# Altium footprint library m2m V200.PcbLib: 21 footprints (part 1 of 2)
Each footprint in its own frame and in the unit in brackets; x right, y up, seen from the top. Pads: shape width x height; smd on the part's side, far side on the other; paste and mask are expansions set on the pad; w line width, h text height; cw(c..) or ccw(c..) is an arc to the next point about the centre after c.
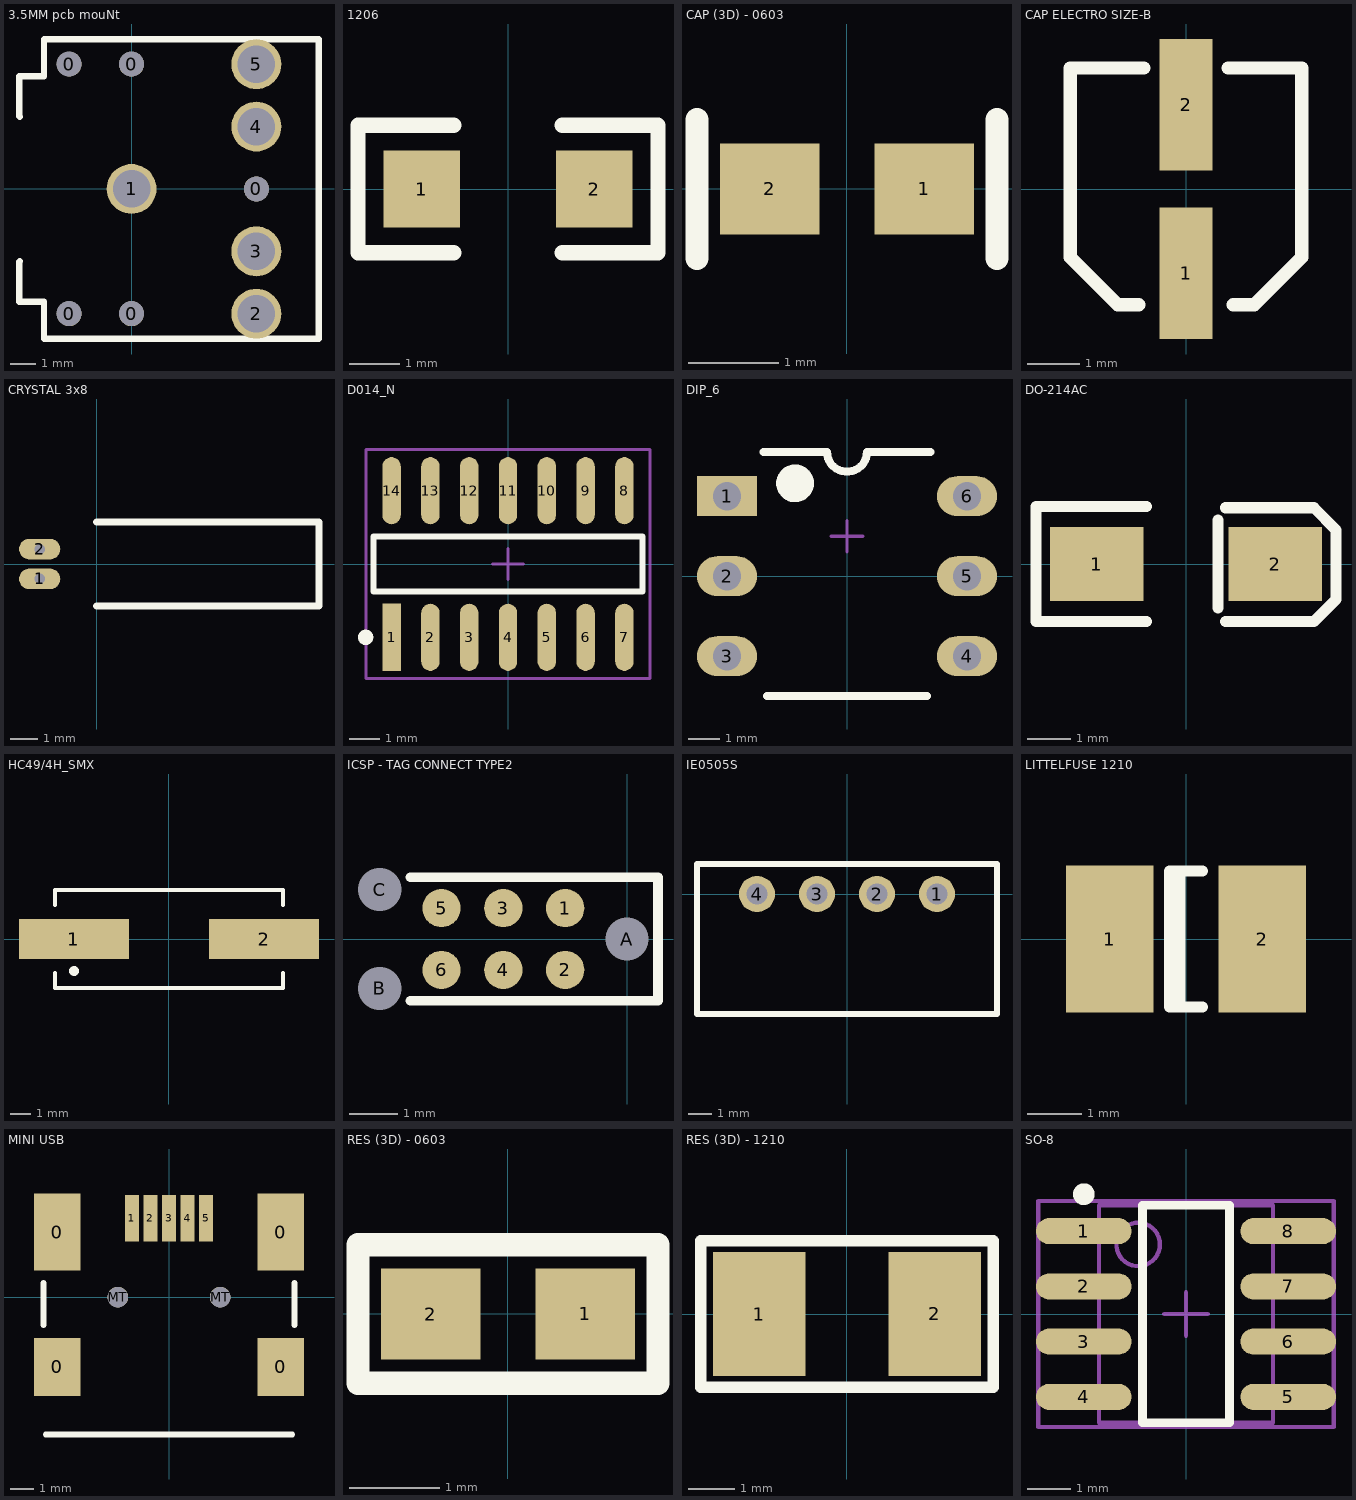
[diagram p0: the footprints below, top view; thin cyan lines are the x and y axes]

## 3.5MM pcb mouNt [mm]
pads (10):
  round 1 hole 1: 0(-2.5,-5) 0(-2.5,5) 0(0,-5) 0(0,5) 0(5,0)
  round 2 hole 1.5: 1(0,0) 2(5,-5) 3(5,-2.5) 4(5,2.5) 5(5,5)
Top Overlay:
  lines w0.254: -4.484,-2.898 -4.502,-2.917 -4.502,-4.514 -3.511,-4.514 -3.511,-5.987 -3.486,-6.013 ; -4.484,2.894 -4.502,2.912 -4.502,4.51 -3.511,4.51 -3.511,5.983 -3.486,6.008 ; -3.499,-6 7.5,-6 ; -3.499,5.995 7.5,5.995 7.501,5.994 ; 7.501,-5.999 7.501,5.994 ; 7.501,-5.999 7.501,5.994
3D body: height 5.52, standoff -3.28, extent -6.549,-5.999 7.501,6.001

## 1206 [mil]
height 27.95
pads (2):
  rect 60x60 smd: 1(-67.5,0) 2(67.5,0)
Top Overlay:
  lines w12: -42.5,-50 -117.5,-50 -117.5,50 -42.5,50 ; 42.5,-50 117.5,-50 117.5,50 42.5,50
3D body: height 21.65, standoff 0, extent -62.99,-31.5 62.99,31.5

## CAP (3D) - 0603 [mm]
height 0.025
pads (2):
  rect 1.1x1 smd: 1(0.85,0) 2(-0.85,0)
Top Overlay:
  lines w0.254: -1.651,-0.762 -1.651,0.762 ; 1.651,-0.762 1.651,0.762
3D body: height 0.92, standoff 0, extent -0.5,-0.4 0.5,0.4
3D body: height 0.92, standoff 0, extent 0.5,-0.4 0.8,0.4
3D body: height 0.92, standoff 0, extent -0.8,-0.4 -0.5,0.4

## CAP ELECTRO SIZE-B [mm]
pads (2):
  rect 1x2.5 smd: 1(0,-1.6) 2(0,1.6)
Top Overlay:
  lines w0.254: -0.9,-2.2 -1.3,-2.2 -2.2,-1.3 -2.2,2.3 -0.8,2.3 ; 0.8,2.3 2.2,2.3 2.2,-1.3 1.3,-2.2 0.9,-2.2
3D body: height 5.4, standoff 0, extent -2.15,-2.3 2.15,2.3

## CRYSTAL 3x8 [mil]
pads (2):
  oval 60x30 hole 15: 1(-82.68,-21.65) 2(-82.68,21.65)
Top Overlay:
  lines w10: 0,-61.02 322.83,-61.02 322.83,61.02 0,61.02
3D body: height 120.08, standoff -1.97, extent -119.49,-62.05 319.49,60

## D014_N [mm] "SOIC, 14-Leads, Body 8.7x3.9mm, Pitch 1.27mm, IPC Medium Density"
height 1.75
pads (14):
  rect 0.6x2.2 smd: 1(-3.81,-2.4)
  oval 0.6x2.2 smd: 2(-2.54,-2.4) 3(-1.27,-2.4) 4(0,-2.4) 5(1.27,-2.4) 6(2.54,-2.4) 7(3.81,-2.4) 8(3.81,2.4) 9(2.54,2.4) 10(1.27,2.4) 11(0,2.4) 12(-1.27,2.4) 13(-2.54,2.4) 14(-3.81,2.4)
Top Overlay:
  circle w0.25: c-4.66,-2.4 r0.125
  lines w0.2: -4.4,-0.9 -4.4,0.9 4.4,0.9 4.4,-0.9 -4.4,-0.9
Mechanical 15:
  lines w0.1: -0.5,0 0.5,0 ; 0,-0.5 0,0.5 ; -4.65,-3.75 -4.65,3.75 4.65,3.75 4.65,-3.75 -4.65,-3.75
3D body: height 1.75, standoff 0, extent -4.375,-3 4.375,3

## DIP_6 [mm]
pads (6):
  rect 1.905x1.27 hole 0.9: 1(-3.81,2.54)
  oval 1.905x1.27 hole 0.9: 2(-3.81,0) 3(-3.81,-2.54) 4(3.81,-2.54) 5(3.81,0) 6(3.81,2.54)
Top Overlay:
  circle w0.6: c-1.65,2.95 r0.3
  lines w0.254: -2.65,3.95 -0.635,3.95 ccw(c0,3.95) 0.635,3.95 2.65,3.95 ; -2.54,-3.81 2.54,-3.81
Mechanical 15:
  lines w0.1: -0.5,1.27 0.5,1.27 ; 0,0.77 0,1.77
3D body: height 4.32, standoff -3.28, extent -4,-4.022 4,4.064

## DO-214AC [mil]
pads (2):
  rect 85x67 smd: 1(-81,0) 2(81,0)
Top Overlay:
  lines w10: -36,-52 -136,-52 -136,52 -36,52 ; 29,-40 29,40 ; 36,-52 116,-52 136,-32 ; 36,51 116,51 136,31 136,-31
3D body: height 11.81, standoff 0, extent -78.74,-23.62 -55.12,23.62
3D body: height 11.81, standoff 0, extent 55.12,-23.62 78.74,23.62
3D body: height 61.02, standoff 0, extent 39.37,-39.37 49.21,39.37
3D body: height 59.06, standoff 0, extent -59.06,-39.37 59.06,39.37

## HC49/4H_SMX [mm] "Quartz Crystal, SM; Body 13.4 (inc. leads) x 4.9 mm (LxW max)"
height 4.3
pads (2):
  rect 5.5x2 smd: 1(-4.75,0) 2(4.75,0)
Top Overlay:
  circle w0.25: c-4.75,-1.6 r0.125
  lines w0.2: -5.7,-1.7 -5.7,-2.45 5.7,-2.45 5.7,-1.7 ; -5.7,1.7 -5.7,2.45 5.7,2.45 5.7,1.7
3D body: height 4.2, standoff 0, extent -6.365,-2.35 6.335,2.35

## ICSP - TAG CONNECT TYPE2 [mil] "ICSP - TAG CONNECT - TYPE 2"
height 51.18
pads (9):
  round 31 smd paste-40: 1(-50,25) 2(-50,-25) 3(-100,25) 4(-100,-25) 5(-150,25) 6(-150,-25)
  round 34 hole 35 unplated: A(0,0) B(-200,-40) C(-200,40)
Top Overlay:
  lines w7.87: -175,-50 25,-50 25,50 -175,50

## IE0505S [mil]
pads (4):
  round 60 hole 35: 1(150,0) 2(50,0) 3(-50,0) 4(-150,0)
Top Overlay:
  lines w10: -250,-200 -250,0 -250,50 250,50 250,-200 -250,-200
3D body: height 394.3, standoff -160.82, extent -228.34,-200 228.35,36.22

## LITTELFUSE 1210 [mm] "Chip Capacitor; Body 3.2 x 2.5 mm (LxW typ)"
height 1.7
pads (2):
  rect 1.6x2.7 smd: 1(-1.4,0) 2(1.4,0)
Top Overlay:
  lines w0.2: -0.11,-1.25 -0.11,1.25 ; 0.3,-1.25 -0.3,-1.25 -0.3,1.25 0.3,1.25
3D body: height 0.67, standoff 0, extent -1.608,-1.288 1.607,1.287

## MINI USB [mm] "KEYSTONE ELECTRONICS 934"
pads (11):
  rect 2x2.5 smd: 0(-4.8,-3) 0(4.8,-3)
  rect 2x3.3 smd: 0(-4.8,2.8) 0(4.8,2.8)
  rect 0.6x2 smd: 1(-1.6,3.4) 2(-0.8,3.4) 3(0,3.4) 4(0.8,3.4) 5(1.6,3.4)
  round 0.89 hole 0.89 unplated: MT(-2.2,0) MT(2.2,0)
Top Overlay:
  lines w0.254: -5.4,-1.2 -5.4,0.6 ; -5.3,-5.9 5.3,-5.9 ; 5.4,-1.2 5.4,0.6
3D body: height 3.97, standoff -0.98, extent -5.35,-5.9 5.35,3.3

## RES (3D) - 0603 [mm]
height 0.025
pads (2):
  rect 1.1x1 smd: 1(0.85,0) 2(-0.85,0)
Top Overlay:
  lines w0.254: -1.651,-0.762 -1.651,0.762 1.651,0.762 1.651,-0.762 -1.651,-0.762
3D body: height 0.92, standoff 0, extent -0.5,-0.4 0.5,0.4
3D body: height 0.92, standoff 0, extent 0.5,-0.4 0.8,0.4
3D body: height 0.92, standoff 0, extent -0.8,-0.4 -0.5,0.4

## RES (3D) - 1210 [mm] "Chip Diode; Body 3.2 x 2.5 mm (LxW typ)"
height 1.35
pads (2):
  rect 2x2.7 smd: 1(-1.905,0) 2(1.905,0)
Top Overlay:
  lines w0.254: -3.175,-0.635 -3.175,1.587 0,1.587 3.175,1.587 3.175,-0.635 ; -3.175,0.635 -3.175,-1.587 0,-1.587 3.175,-1.587 3.175,0.635
3D body: height 1.7, standoff 0, extent -2,-1.244 2,1.245

## SO-8 [mm] "SOIC, 8-Leads, Body 4.9x3.9mm, Pitch 1.27mm, IPC High Density"
height 1.75
pads (8):
  oval 2.2x0.6 smd: 1(-2.35,1.905) 2(-2.35,0.635) 3(-2.35,-0.635) 4(-2.35,-1.905) 5(2.35,-1.905) 6(2.35,-0.635) 7(2.35,0.635) 8(2.35,1.905)
Top Overlay:
  circle w0.25: c-2.35,2.755 r0.125
  lines w0.2: -1,-2.5 -1,2.5 1,2.5 1,-2.5 -1,-2.5
Mechanical 13:
  circle w0.1: c-1.1,1.6 r0.5
  lines w0.1: -2,-2.5 -2,2.5 2,2.5 2,-2.5 -2,-2.5
Mechanical 15:
  lines w0.1: -0.5,0 0.5,0 ; 0,-0.5 0,0.5 ; -3.4,-2.6 -3.4,2.6 3.4,2.6 3.4,-2.6 -3.4,-2.6
3D body: height 1.75, standoff 0, extent -2.9,-2.45 3.1,2.45